# Altium footprint library SamacSys.PcbLib: 7 footprints
Each footprint in its own frame and in the unit in brackets; x right, y up, seen from the top. Pads: shape width x height; smd on the part's side, far side on the other; paste and mask are expansions set on the pad; w line width, h text height; cw(c..) or ccw(c..) is an arc to the next point about the centre after c.
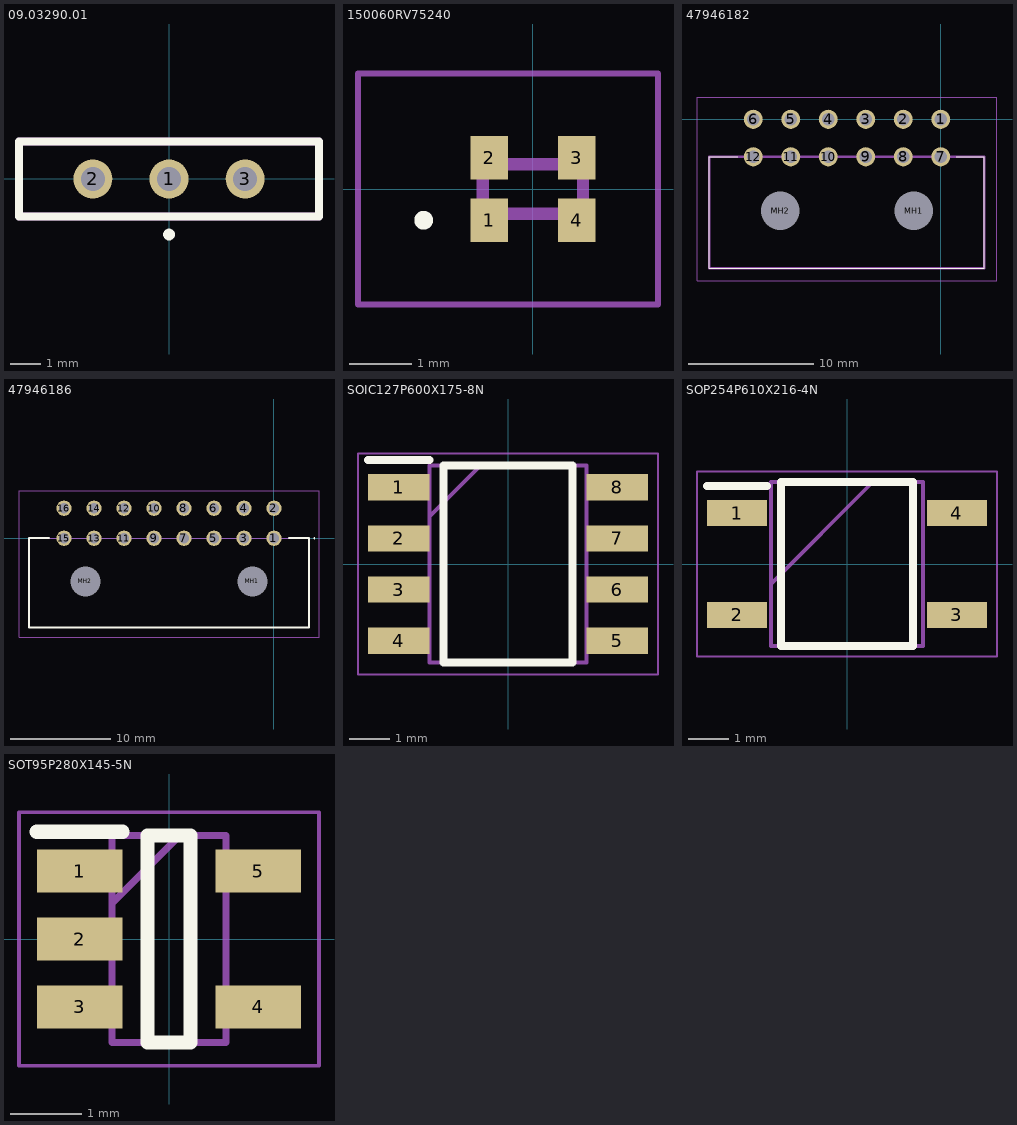
[diagram p0: the footprints below, top view; thin cyan lines are the x and y axes]

## 09.03290.01 [mm]
pads (3):
  round 1.3 hole 0.8: 1(0,0) 2(-2.54,0) 3(2.54,0)
Top Overlay:
  circle w0.254: c0.002,-1.853 r0.067
  lines w0.254: -5,-1.25 -5,1.25 5,1.25 5,-1.25 -5,-1.25
Mechanical 13:
  lines w0.254: -5,-1.25 5,-1.25 5,1.25 -5,1.25 -5,-1.25
3D body "09-03290.01.stp": height 7.8, standoff -5.05, extent -5,-1.25 5,1.25

## 150060RV75240 [mm]
pads (4):
  rect 0.6x0.7 smd: 1(-0.7,-0.5) 2(-0.7,0.5) 3(0.7,0.5) 4(0.7,-0.5)
Top Overlay:
  lines w0.2: -1.8,-0.5 ccw(c-1.75,-0.5) -1.7,-0.5 ; -1.8,-0.5 cw(c-1.75,-0.5) -1.7,-0.5 ; -1.8,-0.5 ccw(c-1.75,-0.5) -1.7,-0.5
Mechanical 13:
  lines w0.2: -0.8,-0.4 0.8,-0.4 0.8,0.4 -0.8,0.4 -0.8,-0.4
Mechanical 15:
  lines w0.1: -2.8,-1.85 2,-1.85 2,1.85 -2.8,1.85 -2.8,-1.85
3D body "150060RV75240.stp": height 0.7, standoff 0, extent -0.8,-0.4 0.8,0.4

## 47946182 [mm]
pads (14):
  round 1.53 hole 1.02: 1(0,0) 2(-3,0) 3(-6,0) 4(-9,0) 5(-12,0) 6(-15,0) 7(0,-3) 8(-3,-3) 9(-6,-3) 10(-9,-3) 11(-12,-3) 12(-15,-3)
  round 1.54 hole 3.08 unplated: MH1(-2.15,-7.32) MH2(-12.85,-7.32)
Top Overlay:
  lines w0.1: -18.5,-11.92 -18.5,-3 ; -18.5,-11.92 -18.5,-3 ; -18.5,-11.92 3.5,-11.92 ; -18.5,-11.92 3.5,-11.92 ; -18.5,-3 -16.25,-3 -18.5,-3 ; 3.5,-11.92 3.5,-3 ; 3.5,-11.92 3.5,-3 ; 3.5,-3 1.25,-3 3.5,-3
Mechanical 13:
  lines w0.2: -18.5,-11.92 -18.5,-3 3.5,-3 3.5,-11.92 -18.5,-11.92
Mechanical 15:
  lines w0.1: -19.5,-12.92 -19.5,1.765 4.5,1.765 4.5,-12.92 -19.5,-12.92
3D body "4-794618-2.stp": height 8.44, standoff -3.74, extent -18.5,-11.93 3.5,0.31

## 47946186 [mm]
pads (18):
  round 1.53 hole 1.02: 1(0,0) 2(0,3) 3(-3,0) 4(-3,3) 5(-6,0) 6(-6,3) 7(-9,0) 8(-9,3) 9(-12,0) 10(-12,3) 11(-15,0) 12(-15,3) 13(-18,0) 14(-18,3) 15(-21,0) 16(-21,3)
  round 1.5 hole 3 unplated: MH1(-2.15,-4.32) MH2(-18.85,-4.32)
Top Overlay:
  lines w0.1: 4,0 cw(c4.05,0) 4.1,0 cw(c4.05,0) 4,0
  lines w0.2: -22.5,0 -24.5,0 -24.5,-8.92 3.5,-8.92 3.5,0 1.5,0
Mechanical 13:
  lines w0.1: -24.5,-8.92 -24.5,0 3.5,0 3.5,-8.92 -24.5,-8.92
Mechanical 15:
  lines w0.1: -25.5,-9.92 -25.5,4.765 4.5,4.765 4.5,-9.92 -25.5,-9.92
3D body "4-794618-6.stp": height 9.31, standoff -2.87, extent -24.5,-8.98 3.5,3.26

## SOIC127P600X175-8N [mm]
pads (8):
  rect 1.525x0.65 smd: 1(-2.712,1.905) 2(-2.712,0.635) 3(-2.712,-0.635) 4(-2.712,-1.905) 5(2.712,-1.905) 6(2.712,-0.635) 7(2.712,0.635) 8(2.712,1.905)
Top Overlay:
  lines w0.2: -3.475,2.58 -1.95,2.58 ; -1.6,-2.45 -1.6,2.45 1.6,2.45 1.6,-2.45 -1.6,-2.45
Mechanical 13:
  lines w0.1: -1.95,1.18 -0.68,2.45 ; -1.95,-2.45 -1.95,2.45 1.95,2.45 1.95,-2.45 -1.95,-2.45
Mechanical 15:
  lines w0.05: -3.725,-2.75 -3.725,2.75 3.725,2.75 3.725,-2.75 -3.725,-2.75
3D body "NE555DR.stp": height 1.75, standoff 0, extent -3,-2.45 3,2.45

## SOP254P610X216-4N [mm]
pads (4):
  rect 1.5x0.65 smd: 1(-2.75,1.27) 2(-2.75,-1.27) 3(2.75,-1.27) 4(2.75,1.27)
Top Overlay:
  lines w0.2: -3.5,1.945 -2,1.945 ; -1.65,-2.044 -1.65,2.044 1.65,2.044 1.65,-2.044 -1.65,-2.044
Mechanical 13:
  lines w0.1: -1.905,-0.496 0.635,2.044 ; -1.905,-2.044 -1.905,2.044 1.905,2.044 1.905,-2.044 -1.905,-2.044
Mechanical 15:
  lines w0.05: -3.75,-2.307 -3.75,2.307 3.75,2.307 3.75,-2.307 -3.75,-2.307
3D body "CPC1117NTR.stp": height 2.16, standoff 0, extent -3.048,-2.044 3.048,2.044

## SOT95P280X145-5N [mm]
pads (5):
  rect 1.2x0.6 smd: 1(-1.25,0.95) 2(-1.25,0) 3(-1.25,-0.95) 4(1.25,-0.95) 5(1.25,0.95)
Top Overlay:
  lines w0.2: -1.85,1.5 -0.65,1.5 ; -0.3,-1.45 0.3,-1.45 0.3,1.45 -0.3,1.45 -0.3,-1.45
Mechanical 13:
  lines w0.1: -0.8,0.5 0.15,1.45 ; -0.8,-1.45 0.8,-1.45 0.8,1.45 -0.8,1.45 -0.8,-1.45
Mechanical 15:
  lines w0.05: -2.1,-1.775 2.1,-1.775 2.1,1.775 -2.1,1.775 -2.1,-1.775
3D body "SN74AHC1G02DBVRE4.stp": height 1.2, standoff 0, extent -1.4,-1.45 1.4,1.45